# Altium schematic symbol library Stamp_UWB.SchLib: 1 symbol
Pins are listed as number, name and electrical type; pins without a type are passive.

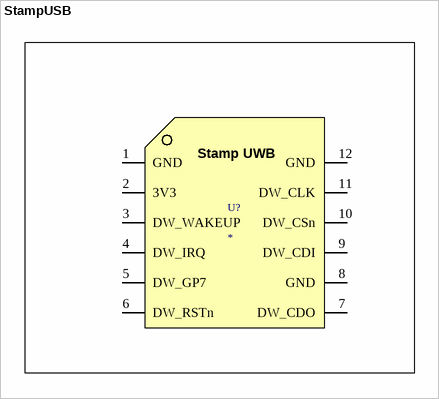
[diagram p0: symbol StampUSB]

## StampUSB
designator U?
pins: 1 GND "1V8", 2 3V3 "1V8", 3 DW_WAKEUP "1V8", 4 DW_IRQ "1V8", 5 DW_GP7 "1V8", 6 DW_RSTn "1V8", 7 DW_CDO "1V8", 8 GND "1V8", 9 DW_CDI "1V8", 10 DW_CSn "1V8", 11 DW_CLK "1V8", 12 GND "1V8"
text: PINMAP; Stamp UWB